# EAGLE library part API500 (library api500)
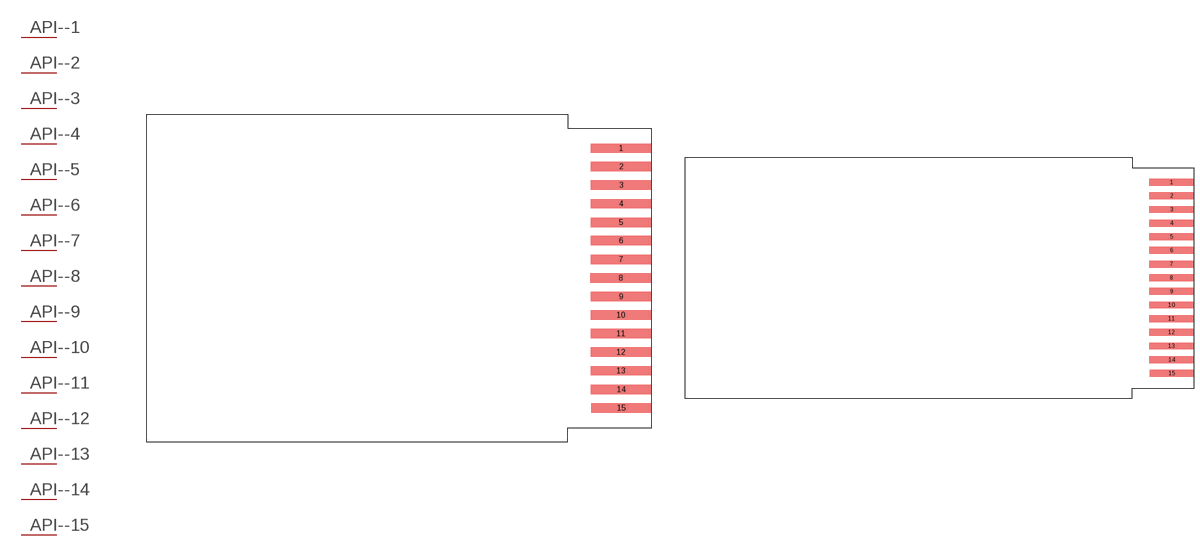
[diagram p0: symbol with the pads of API500; footprints API500, API500-70X148]

Designator prefix API-; gates -1=SINGLEPIN -2=SINGLEPIN -3=SINGLEPIN -4=SINGLEPIN -5=SINGLEPIN -6=SINGLEPIN -7=SINGLEPIN -8=SINGLEPIN -9=SINGLEPIN -10=SINGLEPIN -11=SINGLEPIN -12=SINGLEPIN -13=SINGLEPIN -14=SINGLEPIN -15=SINGLEPIN

## API500STANDARD  [API500]
1  -1:PIN
2  -2:PIN
3  -3:PIN
4  -4:PIN
5  -5:PIN
6  -6:PIN
7  -7:PIN
8  -8:PIN
9  -9:PIN
10  -10:PIN
11  -11:PIN
12  -12:PIN
13  -13:PIN
14  -14:PIN
15  -15:PIN

## API50070X148  [API500-70X148]
Pads as for API500

## API500116X148  [API500-116X148]
Pads as for API500

## Footprint API500 (pad centres in mm)
smd 13 x 2: 1 116.427,55.691; 2 116.47,51.777; 3 116.47,47.813; 4 116.427,43.837; 5 116.436,39.868; 6 116.429,35.962; 7 116.389,31.958; 8 116.366,27.994; 9 116.433,24.019; 10 116.382,20.074; 11 116.382,16.114; 12 116.382,12.154; 13 116.382,8.193; 14 116.462,4.175; 15 116.505,0.252

## Footprint API500-70X148 (pad centres in mm)
smd 13 x 2: 1 11.652,62.676; 2 11.695,58.762; 3 11.695,54.798; 4 11.652,50.822; 5 11.661,46.853; 6 11.654,42.947; 7 11.614,38.943; 8 11.591,34.98; 9 11.658,31.004; 10 11.607,27.059; 11 11.607,23.099; 12 11.607,19.139; 13 11.607,15.178; 14 11.687,11.16; 15 11.73,7.237

## Footprint API500-116X148 (pad centres in mm)
smd 13 x 2: 1 62.452,30.926; 2 62.495,27.012; 3 62.495,23.048; 4 62.452,19.072; 5 62.461,15.103; 6 62.454,11.197; 7 62.414,7.193; 8 62.391,3.229; 9 62.458,-0.746; 10 62.407,-4.691; 11 62.407,-8.651; 12 62.407,-12.611; 13 62.407,-16.572; 14 62.487,-20.59; 15 62.53,-24.513